# Altium footprint library NTC TH 0.4mm Lead.PcbLib: 1 footprints
Each footprint in its own frame and in the unit in brackets; x right, y up, seen from the top. Pads: shape width x height; smd on the part's side, far side on the other; paste and mask are expansions set on the pad; w line width, h text height; cw(c..) or ccw(c..) is an arc to the next point about the centre after c.
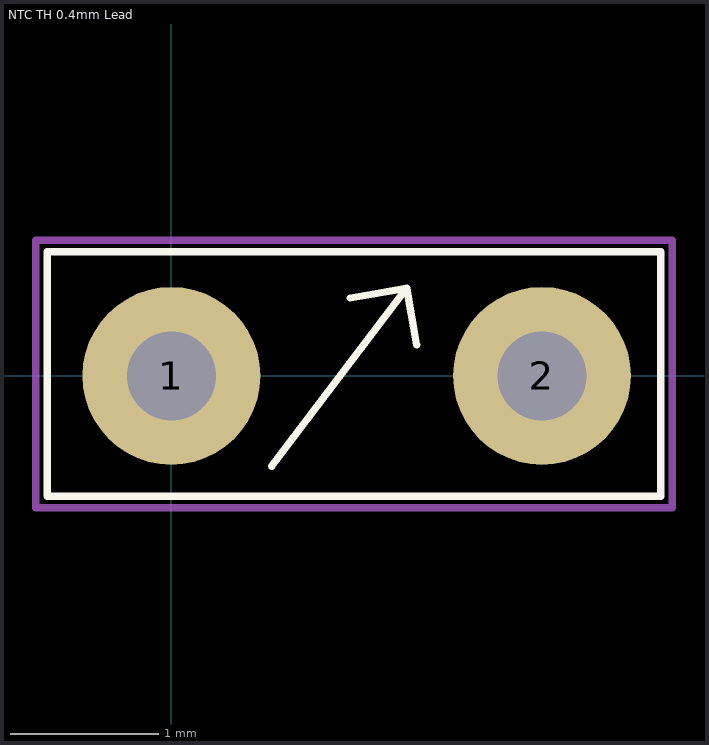
[diagram p0: the footprint, top view; thin cyan lines are the x and y axes]

## NTC TH 0.4mm Lead [mm] "0.4mm Lead, 2.5mm Spacing"
pads (2):
  round 1.2 hole 0.6: 1(0,0) 2(2.5,0)
Top Overlay:
  lines w0.05: 0.676,-0.61 1.587,0.592 ; 1.206,0.525 1.587,0.592 ; 1.654,0.211 1.587,0.592 ; -0.838,-0.813 -0.838,0.838 3.302,0.838 3.302,-0.813 -0.838,-0.813
Mechanical 15:
  lines w0.05: -0.914,-0.889 -0.914,0.914 3.378,0.914 3.378,-0.889 -0.914,-0.889